# Altium schematic symbol library BSH103.SchLib: 2 symbols
Pins are listed as number, name and electrical type; pins without a type are passive.

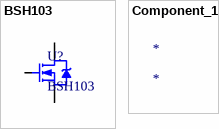
[diagram p0: symbols BSH103 to Component_1]

## BSH103
designator U?
No Description Available; Mfr_Name: NXP; Copyright: Copyright (C) 2022 Ultra Librarian. All rights reserved.; Manufacturer_Part_Number: BSH103; Digi-Key_Part_Number_1: 568-11607-1-ND; Digi-Key_Part_Number_2: 568-11607-2-ND; Digi-Key_Part_Number_3: 568-11607-6-ND; Digi-Key_Part_Number_4: 568-5013-1-ND; Digi-Key_Part_Number_5: 568-5013-2-ND; Digi-Key_Part_Number_6: 568-5013-6-ND; RefDes: RefDes; Type: DEV
footprint SOT23_NXP
pins: 1 GATE, 2 SOURCE, 3 DRAIN

## Component_1
designator *